# EAGLE library part 691401710015 (library Wurth_Elektronik_Electromechanic_Terminal_Blocks_Connectors_rev16b)
WR-TBL Terminal block - serie 401 5,0mm - Spring clamp/Screw less - horizontal entry Code:Con_TBL_Screwless_5.00_6914017100xxB Created 2014-12-22, aslant tao 2014 (C) Würth Elektronik
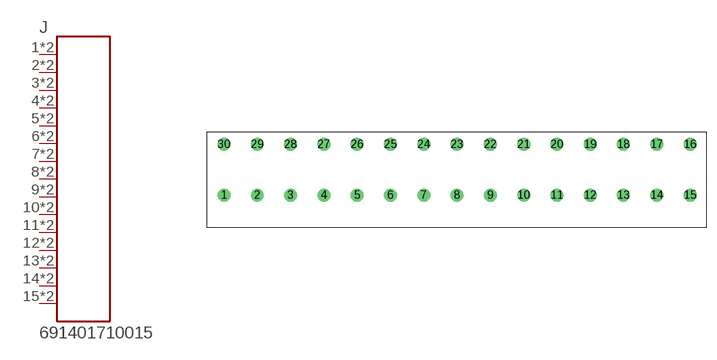
[diagram p221: symbol with the pads of 691401710015; footprint 691401710015]

Designator prefix J

## 691401710015  [691401710015]
1  1  pas
2  2  pas
3  3  pas
4  4  pas
5  5  pas
6  6  pas
7  7  pas
8  8  pas
9  9  pas
10  10  pas
11  11  pas
12  12  pas
13  13  pas
14  14  pas
15  15  pas
16  15  pas
17  14  pas
18  13  pas
19  12  pas
20  11  pas
21  10  pas
22  9  pas
23  8  pas
24  7  pas
25  6  pas
26  5  pas
27  4  pas
28  3  pas
29  2  pas
30  1  pas

## Footprint 691401710015 (pad centres in mm)
WR-TBL Serie 401 - 5.0mm Screwless Horizontal Entry - 2 mm2 Wires, 15 Pins
drill 1.3: 1 -45,0; 2 -40,0; 3 -35,0; 4 -30,0; 5 -25,0; 6 -20,0; 7 -15,0; 8 -10,0; 9 -5,0; 10 0,0; 11 5,0; 12 10,0; 13 15,0; 14 20,0; 15 25,0; 16 25,7.62; 17 20,7.62; 18 15,7.62; 19 10,7.62; 20 5,7.62; 21 0,7.62; 22 -5,7.62; 23 -10,7.62; 24 -15,7.62; 25 -20,7.62; 26 -25,7.62; 27 -30,7.62; 28 -35,7.62; 29 -40,7.62; 30 -45,7.62